# Altium footprint library JACK.PCBLIB: 92 footprints (part 5 of 6)
Each footprint in its own frame and in the unit in brackets; x right, y up, seen from the top. Pads: shape width x height; smd on the part's side, far side on the other; paste and mask are expansions set on the pad; w line width, h text height; cw(c..) or ccw(c..) is an arc to the next point about the centre after c.
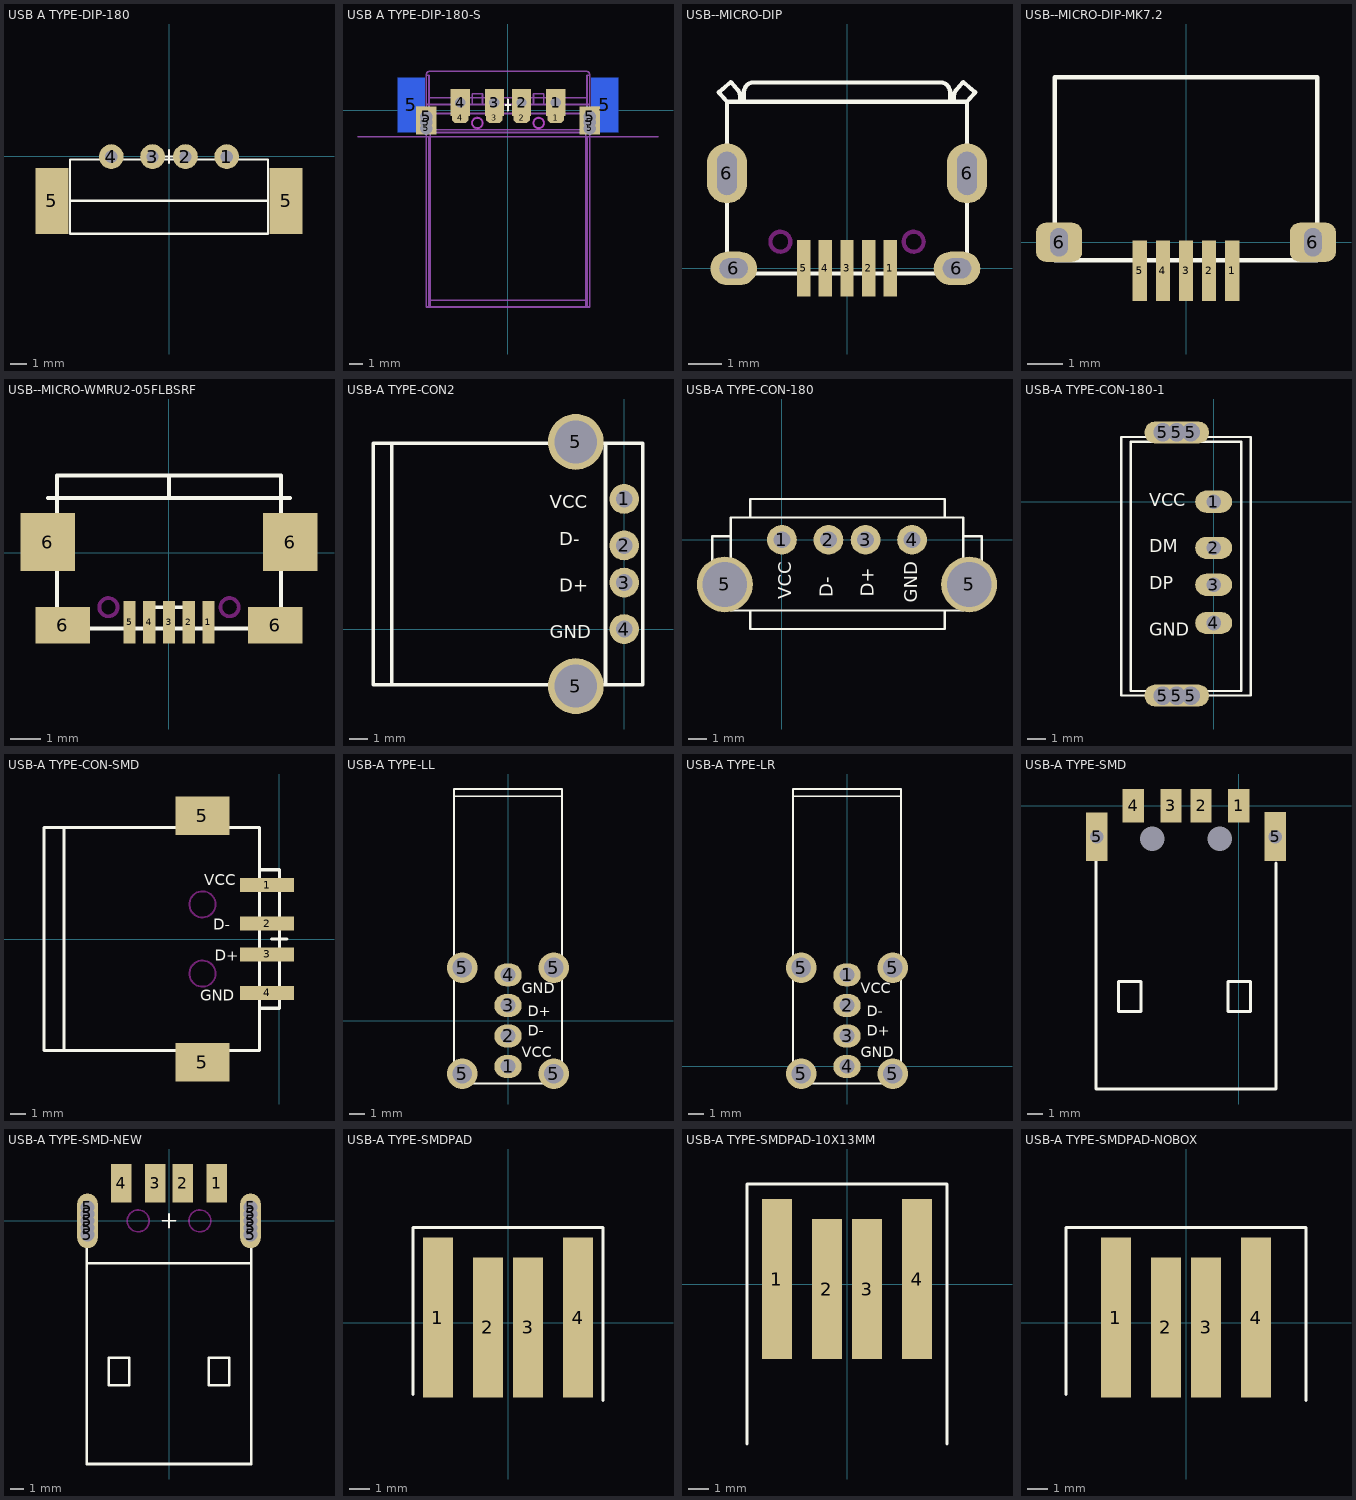
[diagram p4: the footprints below, top view; thin cyan lines are the x and y axes]

## USB A TYPE-DIP-180 [mm]
pads (6):
  round 1.5 hole 0.75: 1(3.5,-0.02) 2(1,-0.02) 3(-1,-0.02) 4(-3.5,-0.02)
  rect 2x4 smd: 5(-7.1,-2.7) 5(7.1,-2.7)
TopOverlay:
  lines w0.127: -6,-2.7 6,-2.7 ; -0.2,-0.02 0.2,-0.02 ; 0,-0.42 0,0.38 ; -6,-4.7 6,-4.7 6,-0.2 -6,-0.2 -6,-4.7

## USB A TYPE-DIP-180-S [mm]
pads (16):
  oct 1.2x0.8 all layers, no hole: 1(3.5,-0.55) 2(1,-0.55) 3(-1,-0.55) 4(-3.5,-0.55)
  rect 1.4x2 hole 0.75: 1(3.5,0.55) 2(1,0.55) 3(-1,0.55) 4(-3.5,0.55)
  rect 2x4 smd far side: 5(-7.1,0.37) 5(7.1,0.37)
  rect 1.5x0.9 hole 0.9: 5(-6,-1.35) 5(6,-1.35)
  rect 1.5x1.5 hole 0.9: 5(-6,-0.5) 5(6,-0.5)
  rect 1.5x1 hole 0.9: 5(-6,-0.9) 5(6,-0.9)
TopOverlay:
  lines w0.127: -0.2,0.37 0.2,0.37 ; 0,-0.03 0,0.77
BottomOverlay:
  lines w0.127: -6,0.37 6,0.37 ; -6,-1.63 -6,2.87 6,2.87 6,-1.63 -6,-1.63
KeepOutLayer:
  circle w0.127: c-2.25,-0.95 r0.4
  circle w0.127: c2.25,-0.95 r0.4
Mechanical1:
  circle w0.127: c1,0.55 r0.5
  circle w0.127: c-1,0.55 r0.5
  circle w0.127: c-3.5,0.55 r0.5
  circle w0.127: c3.5,0.55 r0.5
  circle w0.127: c-2.25,-0.95 r0.375
  circle w0.127: c2.25,-0.95 r0.375
  lines w0.127: -11,-1.95 11,-1.95 ; -6,-1.35 ccw(c-5.7,-1.35) -5.7,-1.65 5.7,-1.65 ccw(c5.7,-1.35) 6,-1.35 ; -6,-1.25 -5.8,-1.25 ; -6,-0.25 6,-0.25 ; -6,0.4 -5.8,0.4 5.8,0.4 6,0.4 ; -5.8,-14.45 -5.8,-1.95 ; -5.8,-13.95 5.8,-13.95 ; -5.7,-14.45 -5.7,-1.95 -5.7,-0.25 ; -3.8,0.6 -3.2,0.6 ; -1.3,0.6 -0.7,0.6 ; 0.7,0.6 1.3,0.6 ; 3.2,0.6 3.8,0.6 ; 5.7,-14.45 5.7,-1.95 5.7,-0.25 ; 5.8,-14.45 5.8,-1.95 ; 5.8,-1.25 6,-1.25 ; -6,2.55 cw(c-5.7,2.55) -5.7,2.85 5.7,2.85 cw(c5.7,2.55) 6,2.55 ; -6,2.55 -5.8,2.55 -5.8,0.9 ; -6,2.55 -6,-1.67 -6,-1.95 -6,-14.45 6,-14.45 6,-1.95 6,-1.67 6,2.55 ; -5.8,0.9 5.8,0.9 ; -5.8,0.9 -5.8,-1.35 ccw(c-5.7,-1.35) -5.7,-1.45 5.7,-1.45 ccw(c5.7,-1.35) 5.8,-1.35 5.8,0.9 ; 5.8,0.9 5.8,2.55 6,2.55 ; -6.4,-1.67 -5.6,-1.67 -5.6,-1.65 -5.6,-0.17 -6,-0.17 -6.4,-0.17 -6.4,-1.67 ; -3.8,-0.75 -3.2,-0.75 -3.2,1.25 -3.8,1.25 -3.8,-0.75 ; -2.625,0.4 -1.875,0.4 -1.875,1.2 -2.625,1.2 -2.625,0.4 ; -1.3,-0.75 -0.7,-0.75 -0.7,1.25 -1.3,1.25 -1.3,-0.75 ; 0.7,-0.75 1.3,-0.75 1.3,1.25 0.7,1.25 0.7,-0.75 ; 1.875,0.4 2.625,0.4 2.625,1.2 1.875,1.2 1.875,0.4 ; 3.2,-0.75 3.8,-0.75 3.8,1.25 3.2,1.25 3.2,-0.75 ; 5.6,-1.67 6.4,-1.67 6.4,-0.17 6,-0.17 5.6,-0.17 5.6,-1.65 5.6,-1.67

## USB--MICRO-DIP [mm] "USB--MICRO-DIP"
pads (9):
  rect 0.4x1.7 smd: 1(1.3,0) 2(0.65,0) 3(0,0) 4(-0.65,0) 5(-1.3,0)
  oval 1.2x1.8 hole 0.6 slot 1.3 at 90 deg: 6(-3.6,2.85) 6(3.6,2.85)
  oval 1.4x1 hole 0.6 slot 0.85 at 0 deg: 6(-3.4,0) 6(3.3,0)
TopOverlay:
  lines w0.127: -3.848,5.282 -3.6,5 ; -3.843,5.287 -3.486,5.593 ; -3.6,-0.15 -3.6,5 ; -3.5,-0.15 3.5,-0.15 ; -3.487,5.592 -3.3,5.375 cw(c-3.541,5.134) -3.2,5.134 -3.2,5 ; -3.1,5 -3.1,5.25 cw(c-2.738,5.25) -2.994,5.506 cw(c-2.828,5.34) -2.828,5.575 2.828,5.575 cw(c2.828,5.34) 2.994,5.506 cw(c2.738,5.25) 3.1,5.25 3.1,5 ; 3.2,5 3.2,5.134 cw(c3.541,5.134) 3.3,5.375 3.487,5.592 ; 3.486,5.593 3.843,5.287 ; 3.6,-0.15 3.6,5 ; 3.848,5.282 3.6,5 ; -3.6,5 3.6,5
KeepOutLayer:
  circle w0.127: c2,0.8 r0.3
  circle w0.127: c-2,0.8 r0.3

## USB--MICRO-DIP-MK7.2 [mm] "USB--MICRO-DIP-MK7.2"
pads (7):
  rect 0.4x1.7 smd: 1(1.3,-0.8) 2(0.65,-0.8) 3(0,-0.8) 4(-0.65,-0.8) 5(-1.3,-0.8)
  rrect50% 1.3x1.1 hole 0.5 slot 0.8 at 90 deg: 6(-3.575,0) 6(3.575,0)
TopOverlay:
  lines w0.127: -3.7,-0.5 3.7,-0.5 3.7,4.65 -3.7,4.65 -3.7,-0.5

## USB--MICRO-WMRU2-05FLBSRF [mm] "USB--MICRO-WMRU2-05FLBSRF"
pads (9):
  rect 0.4x1.4 smd: 1(1.3,-2.3) 2(0.65,-2.3) 3(0,-2.3) 4(-0.65,-2.3) 5(-1.3,-2.3)
  rect 1.8x1.9 smd: 6(-4,0.35) 6(4,0.35)
  rect 1.8x1.2 smd: 6(-3.5,-2.4) 6(3.5,-2.4)
TopOverlay:
  lines w0.127: -4,1.8 4,1.8 ; -0.5,-1.8 0.5,-1.8 ; 0,1.8 0,2.55 ; -3.7,-2.5 -3.7,2.55 3.7,2.55 3.7,-2.5 -3.7,-2.5
KeepOutLayer:
  circle w0.127: c2,-1.8 r0.3
  circle w0.127: c-2,-1.8 r0.3

## USB-A TYPE-CON2 [mm] "USB-A TYPE-CON2"
pads (6):
  round 1.6 hole 0.9: 1(0,7) 2(0,4.5) 3(0,2.5) 4(0,0)
  round 3 hole 2.3: 5(-2.6,-3.07) 5(-2.6,10.07)
TopOverlay:
  lines w0.203: -12.5,-3 -12.5,10 ; -1,-3 -1,10 ; -13.5,-3 -13.5,10 0,10 1,10 1,-3 0,-3 -13.5,-3
  text "D+" at -3.5,2 h0.7
  text "D-" at -3.5,4.5 h0.7
  text "GND" at -4,-0.5 h0.7
  text "VCC" at -4,6.5 h0.7

## USB-A TYPE-CON-180 [mm]
pads (6):
  round 1.6 hole 0.9: 1(0,0) 2(2.5,0) 3(4.5,0) 4(7,0)
  round 3 hole 2.4: 5(-3.07,-2.4) 5(10.07,-2.4)
TopOverlay:
  lines w0.127: -3.75,-2.8 -3.75,0.2 -2.755,0.2 ; -1.7,-3.824 -1.7,-4.8 8.75,-4.8 8.75,-3.821 ; -1.7,1.226 -1.7,2.2 8.75,2.2 8.75,1.221 ; 9.775,0.2 10.75,0.2 10.75,-2.8 ; -2.75,-3.8 9.75,-3.8 9.75,1.2 -2.75,1.2 -2.75,-3.8
  text "VCC" at 0.5,-3.199 h0.7
  text "D+" at 4.948,-3.074 h0.7
  text "D-" at 2.724,-3.099 h0.7
  text "GND" at 7.272,-3.374 h0.7

## USB-A TYPE-CON-180-1 [mm]
pads (10):
  oval 2x1.2 hole 0.8: 1(0,0) 2(0,-2.5) 3(0,-4.5) 4(0,-6.57)
  oval 2x1.2 hole 1: 5(-2.75,-10.5) 5(-2.75,3.75) 5(-2,-10.5) 5(-2,3.75) 5(-1.25,-10.5) 5(-1.25,3.75)
TopOverlay:
  lines w0.127: -5,-10.5 -5,3.5 2,3.5 2,-10.5 -4.75,-10.5 -5,-10.5 ; -4.5,-10.25 1.5,-10.25 1.5,3.25 -4.5,3.25 -4.5,-10.25
  text "GND" at -3.5,-7.25 h0.7
  text "DP" at -3.5,-4.75 h0.7
  text "DM" at -3.5,-2.75 h0.7
  text "VCC" at -3.5,-0.25 h0.7

## USB-A TYPE-CON-SMD [mm]
pads (6):
  rect 3.5x0.9 smd: 1(-0.8,3.5) 2(-0.8,1) 3(-0.8,-1) 4(-0.8,-3.5)
  rect 3.5x2.5 smd: 5(-5,-8) 5(-5,8)
TopOverlay:
  lines w0.2: -14,-7.25 -14,7.25 ; -1.25,-4.5 0,-4.5 0,4.5 -1.25,4.5 ; -0.5,0 0,0 0.5,0 ; -15.3,-7.25 -15.3,7.25 -1.3,7.25 -1.3,-7.25 -15.3,-7.25
  text "D+" at -4.2,-1.4 h0.7
  text "D-" at -4.3,0.6 h0.7
  text "GND" at -5.15,-4 h0.7
  text "VCC" at -4.9,3.5 h0.7
KeepOutLayer:
  circle w0.127: c-5,2.25 r0.85
  circle w0.127: c-5,-2.25 r0.85

## USB-A TYPE-LL [mm]
pads (8):
  oval 1.8x1.5 hole 0.95: 1(0,-3) 2(0,-1) 3(0,1) 4(0,3)
  round 2 hole 1.3: 5(-3,-3.475) 5(-3,3.475) 5(3,-3.475) 5(3,3.475)
TopOverlay:
  lines w0.127: -3.55,14.7 3.55,14.7 ; -3.55,-4.125 3.55,-4.125 3.55,15.175 -3.55,15.175 -3.55,-4.125
  text "GND" at 0.9,1.8 h0.7
  text "D+" at 1.3,0.3 h0.7
  text "VCC" at 0.9,-2.4 h0.7
  text "D-" at 1.3,-1 h0.7

## USB-A TYPE-LR [mm]
pads (8):
  oval 1.8x1.5 hole 0.95: 1(0,6) 2(0,4) 3(0,2) 4(0,0)
  round 2 hole 1.3: 5(-3,-0.475) 5(-3,6.475) 5(3,-0.475) 5(3,6.475)
TopOverlay:
  lines w0.127: -3.55,17.7 3.55,17.7 ; -3.55,-1.125 3.55,-1.125 3.55,18.175 -3.55,18.175 -3.55,-1.125
  text "VCC" at 0.9,4.8 h0.7
  text "D-" at 1.3,3.3 h0.7
  text "D+" at 1.3,2 h0.7
  text "GND" at 0.9,0.6 h0.7

## USB-A TYPE-SMD [mil]
pads (8):
  rect 56x88 smd: 1(0,0) 2(-98.43,0) 3(-177.17,0) 4(-275.6,0)
  rect 56x128 hole 35: 5(-372.05,-81.06) 5(96.45,-80.71)
  round 0 hole 64 unplated: 5(-49.22,-86.61) 6(-226.38,-86.61)
TopOverlay:
  lines w8: -374.02,-145.67 -374.02,-742.13 98.42,-742.13 98.42,-149.61 ; -314.97,-539.37 -255.91,-539.37 -255.91,-460.63 -314.97,-460.63 -314.97,-539.37 ; -27.56,-539.37 31.49,-539.37 31.49,-460.63 -27.56,-460.63 -27.56,-539.37
KeepOutLayer:
  lines w10: -384.84,-121.06 ccw(c-372.05,-108.27) -359.25,-121.06 -359.25,-41.06 ccw(c-372.05,-53.86) -384.84,-41.06 -384.84,-121.06 ; 83.66,-121.06 ccw(c96.46,-108.27) 109.25,-121.06 109.25,-41.06 ccw(c96.46,-53.86) 83.66,-41.06 83.66,-121.06

## USB-A TYPE-SMD-NEW [mm]
pads (14):
  rect 1.5x2.8 smd: 1(3.5,2.75) 2(1,2.75) 3(-1,2.75) 4(-3.5,2.75)
  oval 1.5x2 hole 1: 5(-5.95,-1) 5(-5.95,-0.5) 5(-5.95,0) 5(-5.95,0.5) 5(-5.95,1) 5(5.95,-1) 5(5.95,-0.5) 5(5.95,0) 5(5.95,0.5) 5(5.95,1)
TopOverlay:
  lines w0.127: -0.5,0 0.5,0 ; 0,-0.5 0,0.5
  lines w0.2: -6,-3.1 6,-3.1
  lines w0.203: -6,-2 -6,-17.75 6,-17.75 6,-2 ; -4.4,-12 -4.4,-10 -2.9,-10 -2.9,-12 -4.4,-12 ; 2.9,-12 2.9,-10 4.4,-10 4.4,-12 2.9,-12
KeepOutLayer:
  circle w0.127: c2.25,0 r0.8
  circle w0.127: c-2.25,0 r0.8

## USB-A TYPE-SMDPAD [mm]
pads (4):
  rect 1.5x8 smd: 1(-3.5,0.25) 4(3.5,0.25)
  rect 1.5x7 smd: 2(-1,-0.25) 3(1,-0.25)
TopOverlay:
  lines w0.127: -4.75,-3.6 -4.75,4.75 4.75,4.75 4.75,-3.9

## USB-A TYPE-SMDPAD-10X13MM [mm]
pads (4):
  rect 1.5x8 smd: 1(-3.5,0.25) 4(3.5,0.25)
  rect 1.5x7 smd: 2(-1,-0.25) 3(1,-0.25)
TopOverlay:
  lines w0.127: -5,-8 -5,5 5,5 5,-8

## USB-A TYPE-SMDPAD-NOBOX [mm]
pads (4):
  rect 1.5x8 smd: 1(-3.5,0.25) 4(3.5,0.25)
  rect 1.5x7 smd: 2(-1,-0.25) 3(1,-0.25)
TopOverlay:
  lines w0.127: -6,-3.6 -6,4.75 6,4.75 6,-3.9